# Altium integrated library Microchip PIC16 Part 1.IntLib: 1800 symbols (part 4 of 93)
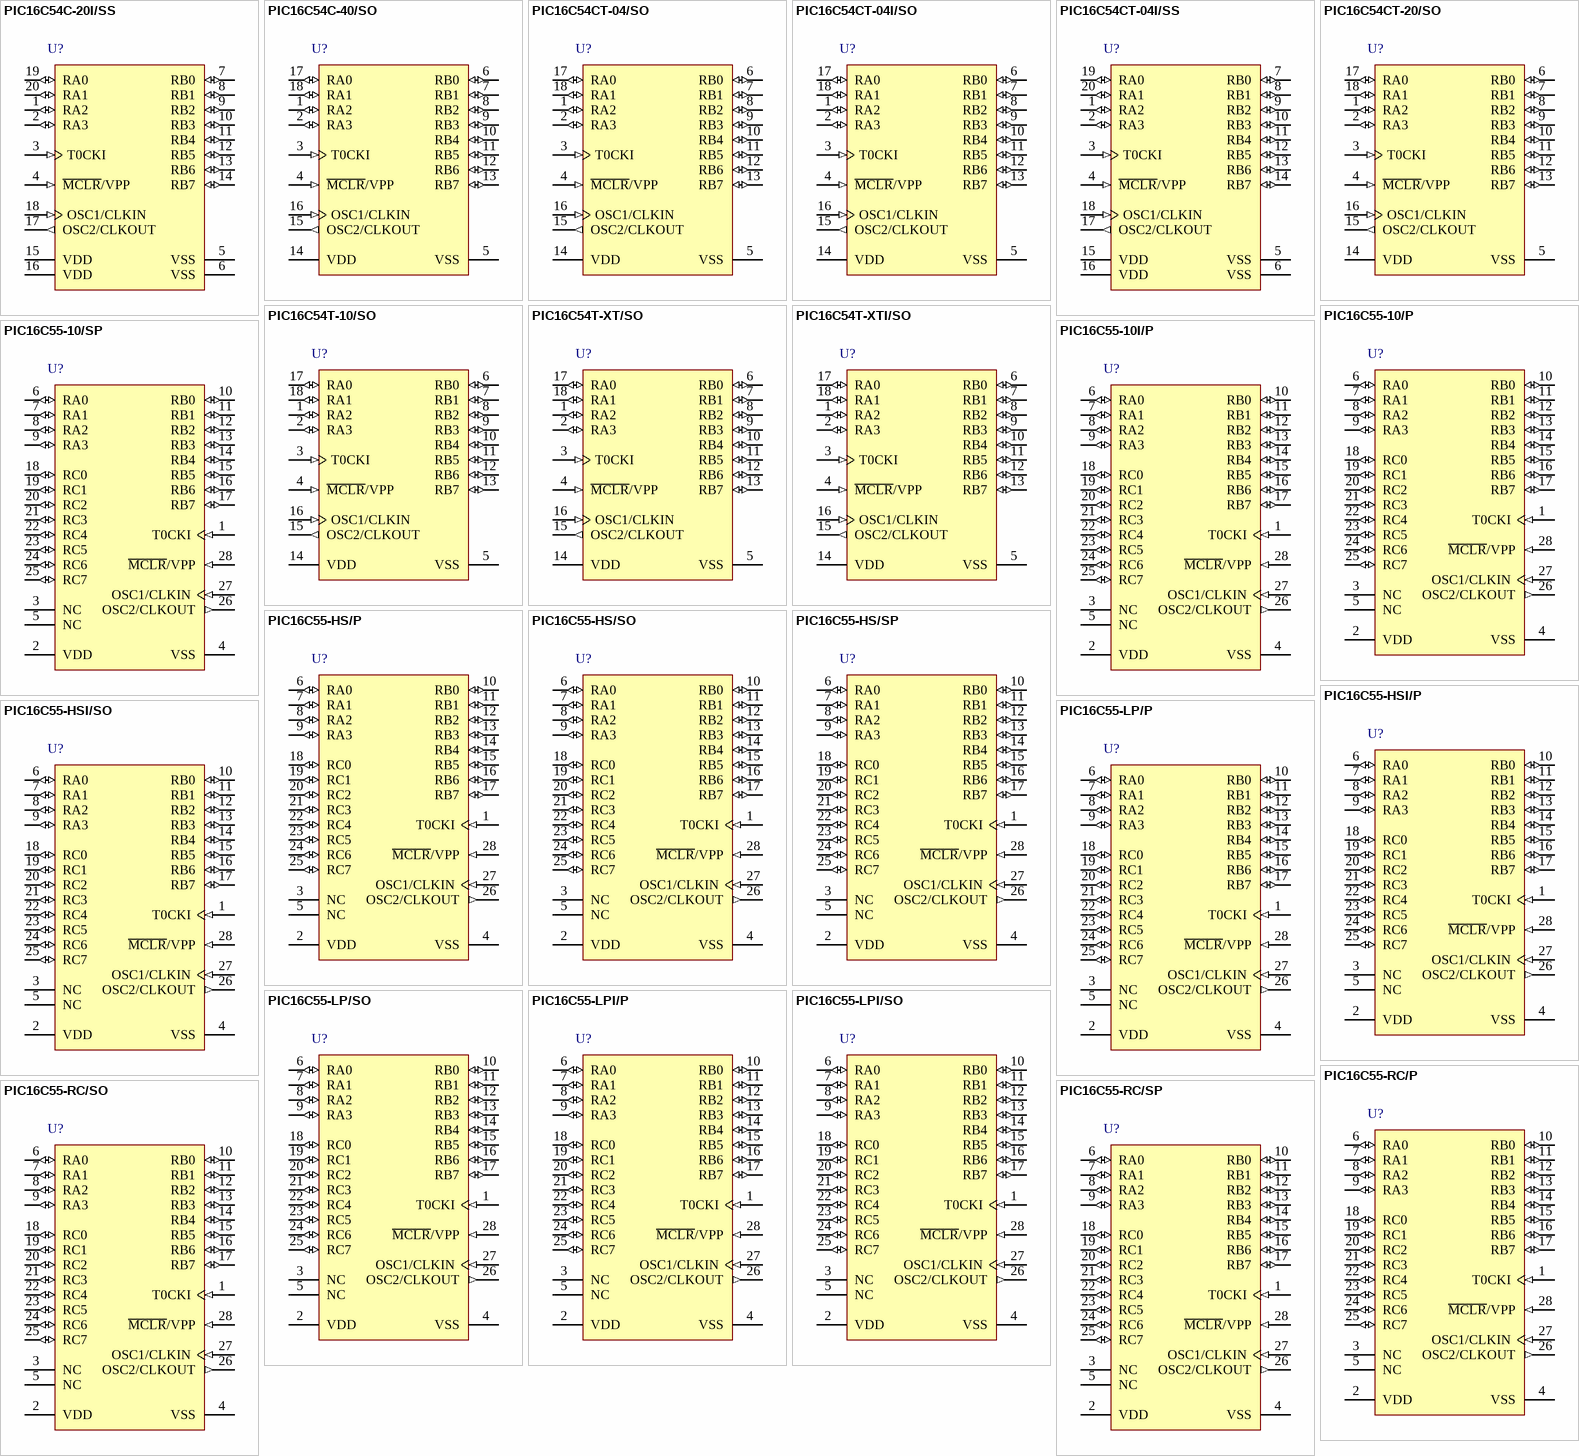
[diagram p103: symbols PIC16C54C-20I/SS to PIC16C55-RC/SP]

## PIC16C54CT-20/SO
designator U?
EPROM / ROM-Based 8-Bit CMOS Microcontroller Series, 20 MHz, 12 I/O, 0 to 70 degC, 18-pin SOIC (SO18), Tape and Reel; Manufacturer: Microchip; PartNumber: PIC16C54CT-20/SO; Digital Communication: 0 -UART, 0 -A/E/USART, 0 -SPI, 0 -I2C; I/O Pins: 12; Max. CPU Speed MHz: 20; Memory Type: OTP; Operation Voltage Range: 4.5V - 5.5V; Packing: T/R; Program Memory KBytes: 0.75; Program Memory KWords: 0.5; RAM: 25; Timers: 1 - 8-bit; DatasheetVersion: Rev. KE; PackageVersion: C04-051C, 12/2012; PackageReference: SOIC-SO18; PackageDescription: 18-Lead Plastic Small Outline, 7.5 x 11.55 mm Body, 1.27 mm Pitch; Supplier 1: Digi-Key; Supplier Part Number 1: PIC16C54CT-20/SO-ND; Supplier 2: Mouser; Supplier Part Number 2: 579-PIC16C54CT-20/SO; RoHS: TRUE; Mounting Technology: Surface Mount; ComponentLink1Description: Datasheet; ComponentLink1URL: http://ww1.microchip.com/downloads/en/DeviceDoc/30453E.pdf; ComponentLink2Description: Package Specification; ComponentLink2URL: http://www.microchip.com/stellent/groups/techpub_sg/documents/packagingspec/en012702.pdf; ComponentLink3Description: URL Link1; ComponentLink3URL: Product URL:http://www.microchip.com/datasheet/PIC16C54C
footprint MCHP-SOIC-SO18_N (SOIC, 18-Leads, Body 11.55x7.5mm, Pitch 1.27mm, IPC Medium Density)
footprint MCHP-SOIC-SO18_L (SOIC, 18-Leads, Body 11.55x7.5mm, Pitch 1.27mm, IPC High Density)
footprint MCHP-SOIC-SO18_M (SOIC, 18-Leads, Body 11.55x7.5mm, Pitch 1.27mm, IPC Low Density)
pins: 1 RA2 (io) "Bi-directional I/O port", 2 RA3 (io) "Bi-directional I/O port", 3 T0CKI (in) "Clock input to Timer0. Must be tied to VSS or VDD, if not in use, to reduce current consumption.", 4 ~{MCLR}/VPP (in), 5 VSS (power) "Ground reference for logic and I/O pins.", 6 RB0 (io) "Bi-directional I/O port", 7 RB1 (io) "Bi-directional I/O port", 8 RB2 (io) "Bi-directional I/O port", 9 RB3 (io) "Bi-directional I/O port", 10 RB4 (io) "Bi-directional I/O port", 11 RB5 (io) "Bi-directional I/O port", 12 RB6 (io) "Bi-directional I/O port", 13 RB7 (io) "Bi-directional I/O port", 14 VDD (power) "Positive supply for logic and I/O pins.", 15 OSC2/CLKOUT (out), 16 OSC1/CLKIN (in), 17 RA0 (io) "Bi-directional I/O port", 18 RA1 (io) "Bi-directional I/O port"

## PIC16C54T-10/SO
designator U?
EPROM / ROM-Based 8-Bit CMOS Microcontroller Series, 10 MHz, 12 I/O, 0 to 70 degC, 18-pin SOIC (SO18), Tape and Reel; Manufacturer: Microchip; PartNumber: PIC16C54T-10/SO; Digital Communication: 0 -UART, 0 -A/E/USART, 0 -SPI, 0 -I2C; I/O Pins: 12; Max. CPU Speed MHz: 10; Memory Type: OTP; Operation Voltage Range: 4.5V - 5.5V; Packing: T/R; Program Memory KBytes: 0.75; Program Memory KWords: 0.5; RAM: 25; Timers: 1 - 8-bit; DatasheetVersion: Rev. KE; PackageVersion: C04-051C, 12/2012; PackageReference: SOIC-SO18; PackageDescription: 18-Lead Plastic Small Outline, 7.5 x 11.55 mm Body, 1.27 mm Pitch; Supplier 1: Digi-Key; Supplier Part Number 1: PIC16C54T-10/SO-ND; Supplier 2: Mouser; Supplier Part Number 2: 579-PIC16C54T-10/SO; RoHS: TRUE; Mounting Technology: Surface Mount; ComponentLink1Description: Datasheet; ComponentLink1URL: http://ww1.microchip.com/downloads/en/DeviceDoc/30453E.pdf; ComponentLink2Description: Package Specification; ComponentLink2URL: http://www.microchip.com/stellent/groups/techpub_sg/documents/packagingspec/en012702.pdf; ComponentLink3Description: URL Link1; ComponentLink3URL: Product URL:http://www.microchip.com/datasheet/PIC16C54
footprint MCHP-SOIC-SO18_N (SOIC, 18-Leads, Body 11.55x7.5mm, Pitch 1.27mm, IPC Medium Density)
footprint MCHP-SOIC-SO18_L (SOIC, 18-Leads, Body 11.55x7.5mm, Pitch 1.27mm, IPC High Density)
footprint MCHP-SOIC-SO18_M (SOIC, 18-Leads, Body 11.55x7.5mm, Pitch 1.27mm, IPC Low Density)
pins: 1 RA2 (io) "Bi-directional I/O port", 2 RA3 (io) "Bi-directional I/O port", 3 T0CKI (in) "Clock input to Timer0. Must be tied to VSS or VDD, if not in use, to reduce current consumption.", 4 ~{MCLR}/VPP (in), 5 VSS (power) "Ground reference for logic and I/O pins.", 6 RB0 (io) "Bi-directional I/O port", 7 RB1 (io) "Bi-directional I/O port", 8 RB2 (io) "Bi-directional I/O port", 9 RB3 (io) "Bi-directional I/O port", 10 RB4 (io) "Bi-directional I/O port", 11 RB5 (io) "Bi-directional I/O port", 12 RB6 (io) "Bi-directional I/O port", 13 RB7 (io) "Bi-directional I/O port", 14 VDD (power) "Positive supply for logic and I/O pins.", 15 OSC2/CLKOUT (out), 16 OSC1/CLKIN (in), 17 RA0 (io) "Bi-directional I/O port", 18 RA1 (io) "Bi-directional I/O port"

## PIC16C54T-XT/SO
designator U?
EPROM / ROM-Based 8-Bit CMOS Microcontroller Series, 4 MHz, 12 I/O, 0 to 70 degC, 18-pin SOIC (SO18), Tape and Reel; Manufacturer: Microchip; PartNumber: PIC16C54T-XT/SO; Digital Communication: 0 -UART, 0 -A/E/USART, 0 -SPI, 0 -I2C; I/O Pins: 12; Max. CPU Speed MHz: 4; Memory Type: OTP; Operation Voltage Range: 2.5V - 6.25V; Packing: T/R; Program Memory KBytes: 0.75; Program Memory KWords: 0.5; RAM: 25; Timers: 1 - 8-bit; DatasheetVersion: Rev. KE; PackageVersion: C04-051C, 12/2012; PackageReference: SOIC-SO18; PackageDescription: 18-Lead Plastic Small Outline, 7.5 x 11.55 mm Body, 1.27 mm Pitch; Supplier 1: Digi-Key; Supplier Part Number 1: PIC16C54T-XT/SO-ND; Supplier 2: Mouser; Supplier Part Number 2: 579-PIC16C54T-XT/SO; RoHS: TRUE; Mounting Technology: Surface Mount; ComponentLink1Description: Datasheet; ComponentLink1URL: http://ww1.microchip.com/downloads/en/DeviceDoc/30453E.pdf; ComponentLink2Description: Package Specification; ComponentLink2URL: http://www.microchip.com/stellent/groups/techpub_sg/documents/packagingspec/en012702.pdf; ComponentLink3Description: URL Link1; ComponentLink3URL: Product URL:http://www.microchip.com/datasheet/PIC16C54
footprint MCHP-SOIC-SO18_N (SOIC, 18-Leads, Body 11.55x7.5mm, Pitch 1.27mm, IPC Medium Density)
footprint MCHP-SOIC-SO18_L (SOIC, 18-Leads, Body 11.55x7.5mm, Pitch 1.27mm, IPC High Density)
footprint MCHP-SOIC-SO18_M (SOIC, 18-Leads, Body 11.55x7.5mm, Pitch 1.27mm, IPC Low Density)
pins: 1 RA2 (io) "Bi-directional I/O port", 2 RA3 (io) "Bi-directional I/O port", 3 T0CKI (in) "Clock input to Timer0. Must be tied to VSS or VDD, if not in use, to reduce current consumption.", 4 ~{MCLR}/VPP (in), 5 VSS (power) "Ground reference for logic and I/O pins.", 6 RB0 (io) "Bi-directional I/O port", 7 RB1 (io) "Bi-directional I/O port", 8 RB2 (io) "Bi-directional I/O port", 9 RB3 (io) "Bi-directional I/O port", 10 RB4 (io) "Bi-directional I/O port", 11 RB5 (io) "Bi-directional I/O port", 12 RB6 (io) "Bi-directional I/O port", 13 RB7 (io) "Bi-directional I/O port", 14 VDD (power) "Positive supply for logic and I/O pins.", 15 OSC2/CLKOUT (out), 16 OSC1/CLKIN (in), 17 RA0 (io) "Bi-directional I/O port", 18 RA1 (io) "Bi-directional I/O port"

## PIC16C54T-XTI/SO
designator U?
EPROM / ROM-Based 8-Bit CMOS Microcontroller Series, 4 MHz, 12 I/O, -40 to 85 degC, 18-pin SOIC (SO18), Tape and Reel; Manufacturer: Microchip; PartNumber: PIC16C54T-XTI/SO; Digital Communication: 0 -UART, 0 -A/E/USART, 0 -SPI, 0 -I2C; I/O Pins: 12; Max. CPU Speed MHz: 4; Memory Type: OTP; Operation Voltage Range: 2.5V - 6.25V; Packing: T/R; Program Memory KBytes: 0.75; Program Memory KWords: 0.5; RAM: 25; Timers: 1 - 8-bit; DatasheetVersion: Rev. KE; PackageVersion: C04-051C, 12/2012; PackageReference: SOIC-SO18; PackageDescription: 18-Lead Plastic Small Outline, 7.5 x 11.55 mm Body, 1.27 mm Pitch; Supplier 1: Digi-Key; Supplier Part Number 1: PIC16C54T-XTI/SO-ND; Supplier 2: Mouser; Supplier Part Number 2: 579-PIC16C54T-XTI/SO; RoHS: TRUE; Mounting Technology: Surface Mount; ComponentLink1Description: Datasheet; ComponentLink1URL: http://ww1.microchip.com/downloads/en/DeviceDoc/30453E.pdf; ComponentLink2Description: Package Specification; ComponentLink2URL: http://www.microchip.com/stellent/groups/techpub_sg/documents/packagingspec/en012702.pdf; ComponentLink3Description: URL Link1; ComponentLink3URL: Product URL:http://www.microchip.com/datasheet/PIC16C54
footprint MCHP-SOIC-SO18_N (SOIC, 18-Leads, Body 11.55x7.5mm, Pitch 1.27mm, IPC Medium Density)
footprint MCHP-SOIC-SO18_L (SOIC, 18-Leads, Body 11.55x7.5mm, Pitch 1.27mm, IPC High Density)
footprint MCHP-SOIC-SO18_M (SOIC, 18-Leads, Body 11.55x7.5mm, Pitch 1.27mm, IPC Low Density)
pins: 1 RA2 (io) "Bi-directional I/O port", 2 RA3 (io) "Bi-directional I/O port", 3 T0CKI (in) "Clock input to Timer0. Must be tied to VSS or VDD, if not in use, to reduce current consumption.", 4 ~{MCLR}/VPP (in), 5 VSS (power) "Ground reference for logic and I/O pins.", 6 RB0 (io) "Bi-directional I/O port", 7 RB1 (io) "Bi-directional I/O port", 8 RB2 (io) "Bi-directional I/O port", 9 RB3 (io) "Bi-directional I/O port", 10 RB4 (io) "Bi-directional I/O port", 11 RB5 (io) "Bi-directional I/O port", 12 RB6 (io) "Bi-directional I/O port", 13 RB7 (io) "Bi-directional I/O port", 14 VDD (power) "Positive supply for logic and I/O pins.", 15 OSC2/CLKOUT (out), 16 OSC1/CLKIN (in), 17 RA0 (io) "Bi-directional I/O port", 18 RA1 (io) "Bi-directional I/O port"

## PIC16C55-10/P
designator U?
EPROM / ROM-Based 8-Bit CMOS Microcontroller Series, 10 MHz, 20 I/O, 0 to 70 degC, 28-pin PDIP (P28), Tube; Manufacturer: Microchip; PartNumber: PIC16C55-10/P; Digital Communication: 1 -UART, 0 -A/E/USART, 0 -SPI, 0 -I2C; I/O Pins: 20; Max. CPU Speed MHz: 10; Memory Type: OTP; Operation Voltage Range: 4.5V - 5.5V; Program Memory KBytes: 0.75; Program Memory KWords: 0.5; RAM: 24; Timers: 1 - 8-bit; DatasheetVersion: Rev. KE; PackageVersion: C04-081B, 04/2013; PackageReference: PDIP-P28; PackageDescription: 28-Lead Plastic Dual In-Line, Body 13.53 x 37.4 mm, Pitch 2.54 mm; Supplier 1: Digi-Key; Supplier Part Number 1: PIC16C55-10/P-ND; Supplier 2: Mouser; Supplier Part Number 2: 579-PIC16C55-10/P; Packing: TUBE; RoHS: TRUE; Mounting Technology: Through Hole; ComponentLink1Description: Datasheet; ComponentLink1URL: http://ww1.microchip.com/downloads/en/DeviceDoc/30453E.pdf; ComponentLink2Description: Package Specification; ComponentLink2URL: http://www.microchip.com/stellent/groups/techpub_sg/documents/packagingspec/en012702.pdf; ComponentLink3Description: URL Link1; ComponentLink3URL: Product URL:http://www.microchip.com/datasheet/PIC16C55
footprint MCHP-PDIP-P28 (DIP, 28-Leads, Body 37.4x13.53mm, Pitch 2.54mm)
pins: 1 T0CKI (in) "Clock input to Timer0. Must be tied to VSS or VDD, if not in use, to reduce current consumption.", 2 VDD (power) "Positive supply for logic and I/O pins.", 3 NC "Unused, do not connect.", 4 VSS (power) "Ground reference for logic and I/O pins.", 5 NC "Unused, do not connect.", 6 RA0 (io) "Bi-directional I/O port", 7 RA1 (io) "Bi-directional I/O port", 8 RA2 (io) "Bi-directional I/O port", 9 RA3 (io) "Bi-directional I/O port", 10 RB0 (io) "Bi-directional I/O port", 11 RB1 (io) "Bi-directional I/O port", 12 RB2 (io) "Bi-directional I/O port", 13 RB3 (io) "Bi-directional I/O port", 14 RB4 (io) "Bi-directional I/O port", 15 RB5 (io) "Bi-directional I/O port", 16 RB6 (io) "Bi-directional I/O port", 17 RB7 (io) "Bi-directional I/O port", 18 RC0 (io) "Bi-directional I/O port", 19 RC1 (io) "Bi-directional I/O port", 20 RC2 (io) "Bi-directional I/O port", 21 RC3 (io) "Bi-directional I/O port", 22 RC4 (io) "Bi-directional I/O port", 23 RC5 (io) "Bi-directional I/O port", 24 RC6 (io) "Bi-directional I/O port", 25 RC7 (io) "Bi-directional I/O port", 26 OSC2/CLKOUT (out), 27 OSC1/CLKIN (in), 28 ~{MCLR}/VPP (in)

## PIC16C55-10/SP
designator U?
EPROM / ROM-Based 8-Bit CMOS Microcontroller Series, 10 MHz, 20 I/O, 0 to 70 degC, 28-pin SPDIP (SP28), Tube; Manufacturer: Microchip; PartNumber: PIC16C55-10/SP; Digital Communication: 1 -UART, 0 -A/E/USART, 0 -SPI, 0 -I2C; I/O Pins: 20; Max. CPU Speed MHz: 10; Memory Type: OTP; Operation Voltage Range: 4.5V - 5.5V; Program Memory KBytes: 0.75; Program Memory KWords: 0.5; RAM: 24; Timers: 1 - 8-bit; DatasheetVersion: Rev. KE; PackageVersion: C04-070B, 12/2012; PackageReference: SPDIP-SP28; PackageDescription: 28-Lead Plastic Dual In-Line, 34.86 x 6.79 mm Body, 2.54 mm Pitch; Supplier 1: Digi-Key; Supplier Part Number 1: PIC16C55-10/SP-ND; Supplier 2: Mouser; Supplier Part Number 2: 579-PIC16C55-10/SP; Packing: TUBE; RoHS: TRUE; Mounting Technology: Through Hole; ComponentLink1Description: Datasheet; ComponentLink1URL: http://ww1.microchip.com/downloads/en/DeviceDoc/30453E.pdf; ComponentLink2Description: Package Specification; ComponentLink2URL: http://www.microchip.com/stellent/groups/techpub_sg/documents/packagingspec/en012702.pdf; ComponentLink3Description: URL Link1; ComponentLink3URL: Product URL:http://www.microchip.com/datasheet/PIC16C55
footprint MCHP-SPDIP-SP28 (DIP, 28-Leads, Body 34.86x6.79mm, Pitch 2.54mm)
pins: 1 T0CKI (in) "Clock input to Timer0. Must be tied to VSS or VDD, if not in use, to reduce current consumption.", 2 VDD (power) "Positive supply for logic and I/O pins.", 3 NC "Unused, do not connect.", 4 VSS (power) "Ground reference for logic and I/O pins.", 5 NC "Unused, do not connect.", 6 RA0 (io) "Bi-directional I/O port", 7 RA1 (io) "Bi-directional I/O port", 8 RA2 (io) "Bi-directional I/O port", 9 RA3 (io) "Bi-directional I/O port", 10 RB0 (io) "Bi-directional I/O port", 11 RB1 (io) "Bi-directional I/O port", 12 RB2 (io) "Bi-directional I/O port", 13 RB3 (io) "Bi-directional I/O port", 14 RB4 (io) "Bi-directional I/O port", 15 RB5 (io) "Bi-directional I/O port", 16 RB6 (io) "Bi-directional I/O port", 17 RB7 (io) "Bi-directional I/O port", 18 RC0 (io) "Bi-directional I/O port", 19 RC1 (io) "Bi-directional I/O port", 20 RC2 (io) "Bi-directional I/O port", 21 RC3 (io) "Bi-directional I/O port", 22 RC4 (io) "Bi-directional I/O port", 23 RC5 (io) "Bi-directional I/O port", 24 RC6 (io) "Bi-directional I/O port", 25 RC7 (io) "Bi-directional I/O port", 26 OSC2/CLKOUT (out), 27 OSC1/CLKIN (in), 28 ~{MCLR}/VPP (in)

## PIC16C55-10I/P
designator U?
EPROM / ROM-Based 8-Bit CMOS Microcontroller Series, 10 MHz, 20 I/O, -40 to 85 degC, 28-pin PDIP (P28), Tube; Manufacturer: Microchip; PartNumber: PIC16C55-10I/P; Digital Communication: 1 -UART, 0 -A/E/USART, 0 -SPI, 0 -I2C; I/O Pins: 20; Max. CPU Speed MHz: 10; Memory Type: OTP; Operation Voltage Range: 4.5V - 5.5V; Program Memory KBytes: 0.75; Program Memory KWords: 0.5; RAM: 24; Timers: 1 - 8-bit; DatasheetVersion: Rev. KE; PackageVersion: C04-081B, 04/2013; PackageReference: PDIP-P28; PackageDescription: 28-Lead Plastic Dual In-Line, Body 13.53 x 37.4 mm, Pitch 2.54 mm; Supplier 1: Digi-Key; Supplier Part Number 1: PIC16C55-10I/P-ND; Supplier 2: Mouser; Supplier Part Number 2: 579-PIC16C55-10I/P; Packing: TUBE; RoHS: TRUE; Mounting Technology: Through Hole; ComponentLink1Description: Datasheet; ComponentLink1URL: http://ww1.microchip.com/downloads/en/DeviceDoc/30453E.pdf; ComponentLink2Description: Package Specification; ComponentLink2URL: http://www.microchip.com/stellent/groups/techpub_sg/documents/packagingspec/en012702.pdf; ComponentLink3Description: URL Link1; ComponentLink3URL: Product URL:http://www.microchip.com/datasheet/PIC16C55
footprint MCHP-PDIP-P28 (DIP, 28-Leads, Body 37.4x13.53mm, Pitch 2.54mm)
pins: 1 T0CKI (in) "Clock input to Timer0. Must be tied to VSS or VDD, if not in use, to reduce current consumption.", 2 VDD (power) "Positive supply for logic and I/O pins.", 3 NC "Unused, do not connect.", 4 VSS (power) "Ground reference for logic and I/O pins.", 5 NC "Unused, do not connect.", 6 RA0 (io) "Bi-directional I/O port", 7 RA1 (io) "Bi-directional I/O port", 8 RA2 (io) "Bi-directional I/O port", 9 RA3 (io) "Bi-directional I/O port", 10 RB0 (io) "Bi-directional I/O port", 11 RB1 (io) "Bi-directional I/O port", 12 RB2 (io) "Bi-directional I/O port", 13 RB3 (io) "Bi-directional I/O port", 14 RB4 (io) "Bi-directional I/O port", 15 RB5 (io) "Bi-directional I/O port", 16 RB6 (io) "Bi-directional I/O port", 17 RB7 (io) "Bi-directional I/O port", 18 RC0 (io) "Bi-directional I/O port", 19 RC1 (io) "Bi-directional I/O port", 20 RC2 (io) "Bi-directional I/O port", 21 RC3 (io) "Bi-directional I/O port", 22 RC4 (io) "Bi-directional I/O port", 23 RC5 (io) "Bi-directional I/O port", 24 RC6 (io) "Bi-directional I/O port", 25 RC7 (io) "Bi-directional I/O port", 26 OSC2/CLKOUT (out), 27 OSC1/CLKIN (in), 28 ~{MCLR}/VPP (in)

## PIC16C55-HS/P
designator U?
EPROM / ROM-Based 8-Bit CMOS Microcontroller Series, 40 MHz, 20 I/O, 0 to 70 degC, 28-pin PDIP (P28), Tube; Manufacturer: Microchip; PartNumber: PIC16C55-HS/P; Digital Communication: 1 -UART, 0 -A/E/USART, 0 -SPI, 0 -I2C; I/O Pins: 20; Max. CPU Speed MHz: 40; Memory Type: OTP; Operation Voltage Range: 4.5V - 5.5V; Program Memory KBytes: 0.75; Program Memory KWords: 0.5; RAM: 24; Timers: 1 - 8-bit; DatasheetVersion: Rev. KE; PackageVersion: C04-081B, 04/2013; PackageReference: PDIP-P28; PackageDescription: 28-Lead Plastic Dual In-Line, Body 13.53 x 37.4 mm, Pitch 2.54 mm; Supplier 1: Digi-Key; Supplier Part Number 1: PIC16C55-HS/P-ND; Supplier 2: Farnell; Supplier Part Number 2: 9759255; Supplier 3: Newark; Supplier Part Number 3: 23C3324; Supplier 4: Mouser; Supplier Part Number 4: 579-PIC16C55-HS/P; Packing: TUBE; RoHS: TRUE; Mounting Technology: Through Hole; ComponentLink1Description: Datasheet; ComponentLink1URL: http://ww1.microchip.com/downloads/en/DeviceDoc/30453E.pdf; ComponentLink2Description: Package Specification; ComponentLink2URL: http://www.microchip.com/stellent/groups/techpub_sg/documents/packagingspec/en012702.pdf; ComponentLink3Description: URL Link1; ComponentLink3URL: Product URL:http://www.microchip.com/datasheet/PIC16C55
footprint MCHP-PDIP-P28 (DIP, 28-Leads, Body 37.4x13.53mm, Pitch 2.54mm)
pins: 1 T0CKI (in) "Clock input to Timer0. Must be tied to VSS or VDD, if not in use, to reduce current consumption.", 2 VDD (power) "Positive supply for logic and I/O pins.", 3 NC "Unused, do not connect.", 4 VSS (power) "Ground reference for logic and I/O pins.", 5 NC "Unused, do not connect.", 6 RA0 (io) "Bi-directional I/O port", 7 RA1 (io) "Bi-directional I/O port", 8 RA2 (io) "Bi-directional I/O port", 9 RA3 (io) "Bi-directional I/O port", 10 RB0 (io) "Bi-directional I/O port", 11 RB1 (io) "Bi-directional I/O port", 12 RB2 (io) "Bi-directional I/O port", 13 RB3 (io) "Bi-directional I/O port", 14 RB4 (io) "Bi-directional I/O port", 15 RB5 (io) "Bi-directional I/O port", 16 RB6 (io) "Bi-directional I/O port", 17 RB7 (io) "Bi-directional I/O port", 18 RC0 (io) "Bi-directional I/O port", 19 RC1 (io) "Bi-directional I/O port", 20 RC2 (io) "Bi-directional I/O port", 21 RC3 (io) "Bi-directional I/O port", 22 RC4 (io) "Bi-directional I/O port", 23 RC5 (io) "Bi-directional I/O port", 24 RC6 (io) "Bi-directional I/O port", 25 RC7 (io) "Bi-directional I/O port", 26 OSC2/CLKOUT (out), 27 OSC1/CLKIN (in), 28 ~{MCLR}/VPP (in)

## PIC16C55-HS/SO
designator U?
EPROM / ROM-Based 8-Bit CMOS Microcontroller Series, 40 MHz, 20 I/O, 0 to 70 degC, 28-pin SOIC (SO28), Tube; Manufacturer: Microchip; PartNumber: PIC16C55-HS/SO; Digital Communication: 1 -UART, 0 -A/E/USART, 0 -SPI, 0 -I2C; I/O Pins: 20; Max. CPU Speed MHz: 40; Memory Type: OTP; Operation Voltage Range: 4.5V - 5.5V; Program Memory KBytes: 0.75; Program Memory KWords: 0.5; RAM: 24; Timers: 1 - 8-bit; DatasheetVersion: Rev. KE; PackageVersion: C04-052C, 12/2012; PackageReference: SOIC-SO28; PackageDescription: 28-Lead Plastic Small Outline, 17.9 x 7.5 mm Body, 1.27 mm Pitch; Supplier 1: Digi-Key; Supplier Part Number 1: PIC16C55-HS/SO-ND; Supplier 2: Newark; Supplier Part Number 2: 23C3325; Supplier 3: Mouser; Supplier Part Number 3: 579-PIC16C55-HS/SO; Packing: TUBE; RoHS: TRUE; Mounting Technology: Surface Mount; ComponentLink1Description: Datasheet; ComponentLink1URL: http://ww1.microchip.com/downloads/en/DeviceDoc/30453E.pdf; ComponentLink2Description: Package Specification; ComponentLink2URL: http://www.microchip.com/stellent/groups/techpub_sg/documents/packagingspec/en012702.pdf; ComponentLink3Description: URL Link1; ComponentLink3URL: Product URL:http://www.microchip.com/datasheet/PIC16C55
footprint MCHP-SOIC-SO28_N (SOIC, 28-Leads, Body 17.9x7.5mm, Pitch 1.27mm, IPC Medium Density)
footprint MCHP-SOIC-SO28_L (SOIC, 28-Leads, Body 17.9x7.5mm, Pitch 1.27mm, IPC High Density)
footprint MCHP-SOIC-SO28_M (SOIC, 28-Leads, Body 17.9x7.5mm, Pitch 1.27mm, IPC Low Density)
pins: 1 T0CKI (in) "Clock input to Timer0. Must be tied to VSS or VDD, if not in use, to reduce current consumption.", 2 VDD (power) "Positive supply for logic and I/O pins.", 3 NC "Unused, do not connect.", 4 VSS (power) "Ground reference for logic and I/O pins.", 5 NC "Unused, do not connect.", 6 RA0 (io) "Bi-directional I/O port", 7 RA1 (io) "Bi-directional I/O port", 8 RA2 (io) "Bi-directional I/O port", 9 RA3 (io) "Bi-directional I/O port", 10 RB0 (io) "Bi-directional I/O port", 11 RB1 (io) "Bi-directional I/O port", 12 RB2 (io) "Bi-directional I/O port", 13 RB3 (io) "Bi-directional I/O port", 14 RB4 (io) "Bi-directional I/O port", 15 RB5 (io) "Bi-directional I/O port", 16 RB6 (io) "Bi-directional I/O port", 17 RB7 (io) "Bi-directional I/O port", 18 RC0 (io) "Bi-directional I/O port", 19 RC1 (io) "Bi-directional I/O port", 20 RC2 (io) "Bi-directional I/O port", 21 RC3 (io) "Bi-directional I/O port", 22 RC4 (io) "Bi-directional I/O port", 23 RC5 (io) "Bi-directional I/O port", 24 RC6 (io) "Bi-directional I/O port", 25 RC7 (io) "Bi-directional I/O port", 26 OSC2/CLKOUT (out), 27 OSC1/CLKIN (in), 28 ~{MCLR}/VPP (in)

## PIC16C55-HS/SP
designator U?
EPROM / ROM-Based 8-Bit CMOS Microcontroller Series, 40 MHz, 20 I/O, 0 to 70 degC, 28-pin SPDIP (SP28), Tube; Manufacturer: Microchip; PartNumber: PIC16C55-HS/SP; Digital Communication: 1 -UART, 0 -A/E/USART, 0 -SPI, 0 -I2C; I/O Pins: 20; Max. CPU Speed MHz: 40; Memory Type: OTP; Operation Voltage Range: 4.5V - 5.5V; Program Memory KBytes: 0.75; Program Memory KWords: 0.5; RAM: 24; Timers: 1 - 8-bit; DatasheetVersion: Rev. KE; PackageVersion: C04-070B, 12/2012; PackageReference: SPDIP-SP28; PackageDescription: 28-Lead Plastic Dual In-Line, 34.86 x 6.79 mm Body, 2.54 mm Pitch; Supplier 1: Digi-Key; Supplier Part Number 1: PIC16C55-HS/SP-ND; Supplier 2: Mouser; Supplier Part Number 2: 579-PIC16C55-HS/SP; Packing: TUBE; RoHS: TRUE; Mounting Technology: Through Hole; ComponentLink1Description: Datasheet; ComponentLink1URL: http://ww1.microchip.com/downloads/en/DeviceDoc/30453E.pdf; ComponentLink2Description: Package Specification; ComponentLink2URL: http://www.microchip.com/stellent/groups/techpub_sg/documents/packagingspec/en012702.pdf; ComponentLink3Description: URL Link1; ComponentLink3URL: Product URL:http://www.microchip.com/datasheet/PIC16C55
footprint MCHP-SPDIP-SP28 (DIP, 28-Leads, Body 34.86x6.79mm, Pitch 2.54mm)
pins: 1 T0CKI (in) "Clock input to Timer0. Must be tied to VSS or VDD, if not in use, to reduce current consumption.", 2 VDD (power) "Positive supply for logic and I/O pins.", 3 NC "Unused, do not connect.", 4 VSS (power) "Ground reference for logic and I/O pins.", 5 NC "Unused, do not connect.", 6 RA0 (io) "Bi-directional I/O port", 7 RA1 (io) "Bi-directional I/O port", 8 RA2 (io) "Bi-directional I/O port", 9 RA3 (io) "Bi-directional I/O port", 10 RB0 (io) "Bi-directional I/O port", 11 RB1 (io) "Bi-directional I/O port", 12 RB2 (io) "Bi-directional I/O port", 13 RB3 (io) "Bi-directional I/O port", 14 RB4 (io) "Bi-directional I/O port", 15 RB5 (io) "Bi-directional I/O port", 16 RB6 (io) "Bi-directional I/O port", 17 RB7 (io) "Bi-directional I/O port", 18 RC0 (io) "Bi-directional I/O port", 19 RC1 (io) "Bi-directional I/O port", 20 RC2 (io) "Bi-directional I/O port", 21 RC3 (io) "Bi-directional I/O port", 22 RC4 (io) "Bi-directional I/O port", 23 RC5 (io) "Bi-directional I/O port", 24 RC6 (io) "Bi-directional I/O port", 25 RC7 (io) "Bi-directional I/O port", 26 OSC2/CLKOUT (out), 27 OSC1/CLKIN (in), 28 ~{MCLR}/VPP (in)

## PIC16C55-HSI/P
designator U?
EPROM / ROM-Based 8-Bit CMOS Microcontroller Series, 40 MHz, 20 I/O, -40 to 85 degC, 28-pin PDIP (P28), Tube; Manufacturer: Microchip; PartNumber: PIC16C55-HSI/P; Digital Communication: 1 -UART, 0 -A/E/USART, 0 -SPI, 0 -I2C; I/O Pins: 20; Max. CPU Speed MHz: 40; Memory Type: OTP; Operation Voltage Range: 4.5V - 5.5V; Program Memory KBytes: 0.75; Program Memory KWords: 0.5; RAM: 24; Timers: 1 - 8-bit; DatasheetVersion: Rev. KE; PackageVersion: C04-081B, 04/2013; PackageReference: PDIP-P28; PackageDescription: 28-Lead Plastic Dual In-Line, Body 13.53 x 37.4 mm, Pitch 2.54 mm; Supplier 1: Digi-Key; Supplier Part Number 1: PIC16C55-HSI/P-ND; Supplier 2: Newark; Supplier Part Number 2: 23C3332; Supplier 3: Mouser; Supplier Part Number 3: 579-PIC16C55-HSI/P; Packing: TUBE; RoHS: TRUE; Mounting Technology: Through Hole; ComponentLink1Description: Datasheet; ComponentLink1URL: http://ww1.microchip.com/downloads/en/DeviceDoc/30453E.pdf; ComponentLink2Description: Package Specification; ComponentLink2URL: http://www.microchip.com/stellent/groups/techpub_sg/documents/packagingspec/en012702.pdf; ComponentLink3Description: URL Link1; ComponentLink3URL: Product URL:http://www.microchip.com/datasheet/PIC16C55
footprint MCHP-PDIP-P28 (DIP, 28-Leads, Body 37.4x13.53mm, Pitch 2.54mm)
pins: 1 T0CKI (in) "Clock input to Timer0. Must be tied to VSS or VDD, if not in use, to reduce current consumption.", 2 VDD (power) "Positive supply for logic and I/O pins.", 3 NC "Unused, do not connect.", 4 VSS (power) "Ground reference for logic and I/O pins.", 5 NC "Unused, do not connect.", 6 RA0 (io) "Bi-directional I/O port", 7 RA1 (io) "Bi-directional I/O port", 8 RA2 (io) "Bi-directional I/O port", 9 RA3 (io) "Bi-directional I/O port", 10 RB0 (io) "Bi-directional I/O port", 11 RB1 (io) "Bi-directional I/O port", 12 RB2 (io) "Bi-directional I/O port", 13 RB3 (io) "Bi-directional I/O port", 14 RB4 (io) "Bi-directional I/O port", 15 RB5 (io) "Bi-directional I/O port", 16 RB6 (io) "Bi-directional I/O port", 17 RB7 (io) "Bi-directional I/O port", 18 RC0 (io) "Bi-directional I/O port", 19 RC1 (io) "Bi-directional I/O port", 20 RC2 (io) "Bi-directional I/O port", 21 RC3 (io) "Bi-directional I/O port", 22 RC4 (io) "Bi-directional I/O port", 23 RC5 (io) "Bi-directional I/O port", 24 RC6 (io) "Bi-directional I/O port", 25 RC7 (io) "Bi-directional I/O port", 26 OSC2/CLKOUT (out), 27 OSC1/CLKIN (in), 28 ~{MCLR}/VPP (in)

## PIC16C55-HSI/SO
designator U?
EPROM / ROM-Based 8-Bit CMOS Microcontroller Series, 40 MHz, 20 I/O, -40 to 85 degC, 28-pin SOIC (SO28), Tube; Manufacturer: Microchip; PartNumber: PIC16C55-HSI/SO; Digital Communication: 1 -UART, 0 -A/E/USART, 0 -SPI, 0 -I2C; I/O Pins: 20; Max. CPU Speed MHz: 40; Memory Type: OTP; Operation Voltage Range: 4.5V - 5.5V; Program Memory KBytes: 0.75; Program Memory KWords: 0.5; RAM: 24; Timers: 1 - 8-bit; DatasheetVersion: Rev. KE; PackageVersion: C04-052C, 12/2012; PackageReference: SOIC-SO28; PackageDescription: 28-Lead Plastic Small Outline, 17.9 x 7.5 mm Body, 1.27 mm Pitch; Supplier 1: Digi-Key; Supplier Part Number 1: PIC16C55-HSI/SO-ND; Supplier 2: Mouser; Supplier Part Number 2: 579-PIC16C55-HSI/SO; Packing: TUBE; RoHS: TRUE; Mounting Technology: Surface Mount; ComponentLink1Description: Datasheet; ComponentLink1URL: http://ww1.microchip.com/downloads/en/DeviceDoc/30453E.pdf; ComponentLink2Description: Package Specification; ComponentLink2URL: http://www.microchip.com/stellent/groups/techpub_sg/documents/packagingspec/en012702.pdf; ComponentLink3Description: URL Link1; ComponentLink3URL: Product URL:http://www.microchip.com/datasheet/PIC16C55
footprint MCHP-SOIC-SO28_N (SOIC, 28-Leads, Body 17.9x7.5mm, Pitch 1.27mm, IPC Medium Density)
footprint MCHP-SOIC-SO28_L (SOIC, 28-Leads, Body 17.9x7.5mm, Pitch 1.27mm, IPC High Density)
footprint MCHP-SOIC-SO28_M (SOIC, 28-Leads, Body 17.9x7.5mm, Pitch 1.27mm, IPC Low Density)
pins: 1 T0CKI (in) "Clock input to Timer0. Must be tied to VSS or VDD, if not in use, to reduce current consumption.", 2 VDD (power) "Positive supply for logic and I/O pins.", 3 NC "Unused, do not connect.", 4 VSS (power) "Ground reference for logic and I/O pins.", 5 NC "Unused, do not connect.", 6 RA0 (io) "Bi-directional I/O port", 7 RA1 (io) "Bi-directional I/O port", 8 RA2 (io) "Bi-directional I/O port", 9 RA3 (io) "Bi-directional I/O port", 10 RB0 (io) "Bi-directional I/O port", 11 RB1 (io) "Bi-directional I/O port", 12 RB2 (io) "Bi-directional I/O port", 13 RB3 (io) "Bi-directional I/O port", 14 RB4 (io) "Bi-directional I/O port", 15 RB5 (io) "Bi-directional I/O port", 16 RB6 (io) "Bi-directional I/O port", 17 RB7 (io) "Bi-directional I/O port", 18 RC0 (io) "Bi-directional I/O port", 19 RC1 (io) "Bi-directional I/O port", 20 RC2 (io) "Bi-directional I/O port", 21 RC3 (io) "Bi-directional I/O port", 22 RC4 (io) "Bi-directional I/O port", 23 RC5 (io) "Bi-directional I/O port", 24 RC6 (io) "Bi-directional I/O port", 25 RC7 (io) "Bi-directional I/O port", 26 OSC2/CLKOUT (out), 27 OSC1/CLKIN (in), 28 ~{MCLR}/VPP (in)

## PIC16C55-LP/P
designator U?
EPROM / ROM-Based 8-Bit CMOS Microcontroller Series, 0.2 MHz, 20 I/O, 0 to 70 degC, 28-pin PDIP (P28), Tube; Manufacturer: Microchip; PartNumber: PIC16C55-LP/P; Digital Communication: 1 -UART, 0 -A/E/USART, 0 -SPI, 0 -I2C; I/O Pins: 20; Max. CPU Speed MHz: 0.2; Memory Type: OTP; Operation Voltage Range: 2.5V - 6.25V; Program Memory KBytes: 0.75; Program Memory KWords: 0.5; RAM: 24; Timers: 1 - 8-bit; DatasheetVersion: Rev. KE; PackageVersion: C04-081B, 04/2013; PackageReference: PDIP-P28; PackageDescription: 28-Lead Plastic Dual In-Line, Body 13.53 x 37.4 mm, Pitch 2.54 mm; Supplier 1: Digi-Key; Supplier Part Number 1: PIC16C55-LP/P-ND; Supplier 2: Mouser; Supplier Part Number 2: 579-PIC16C55-LP/P; Packing: TUBE; RoHS: TRUE; Mounting Technology: Through Hole; ComponentLink1Description: Datasheet; ComponentLink1URL: http://ww1.microchip.com/downloads/en/DeviceDoc/30453E.pdf; ComponentLink2Description: Package Specification; ComponentLink2URL: http://www.microchip.com/stellent/groups/techpub_sg/documents/packagingspec/en012702.pdf; ComponentLink3Description: URL Link1; ComponentLink3URL: Product URL:http://www.microchip.com/datasheet/PIC16C55
footprint MCHP-PDIP-P28 (DIP, 28-Leads, Body 37.4x13.53mm, Pitch 2.54mm)
pins: 1 T0CKI (in) "Clock input to Timer0. Must be tied to VSS or VDD, if not in use, to reduce current consumption.", 2 VDD (power) "Positive supply for logic and I/O pins.", 3 NC "Unused, do not connect.", 4 VSS (power) "Ground reference for logic and I/O pins.", 5 NC "Unused, do not connect.", 6 RA0 (io) "Bi-directional I/O port", 7 RA1 (io) "Bi-directional I/O port", 8 RA2 (io) "Bi-directional I/O port", 9 RA3 (io) "Bi-directional I/O port", 10 RB0 (io) "Bi-directional I/O port", 11 RB1 (io) "Bi-directional I/O port", 12 RB2 (io) "Bi-directional I/O port", 13 RB3 (io) "Bi-directional I/O port", 14 RB4 (io) "Bi-directional I/O port", 15 RB5 (io) "Bi-directional I/O port", 16 RB6 (io) "Bi-directional I/O port", 17 RB7 (io) "Bi-directional I/O port", 18 RC0 (io) "Bi-directional I/O port", 19 RC1 (io) "Bi-directional I/O port", 20 RC2 (io) "Bi-directional I/O port", 21 RC3 (io) "Bi-directional I/O port", 22 RC4 (io) "Bi-directional I/O port", 23 RC5 (io) "Bi-directional I/O port", 24 RC6 (io) "Bi-directional I/O port", 25 RC7 (io) "Bi-directional I/O port", 26 OSC2/CLKOUT (out), 27 OSC1/CLKIN (in), 28 ~{MCLR}/VPP (in)

## PIC16C55-LP/SO
designator U?
EPROM / ROM-Based 8-Bit CMOS Microcontroller Series, 0.2 MHz, 20 I/O, 0 to 70 degC, 28-pin SOIC (SO28), Tube; Manufacturer: Microchip; PartNumber: PIC16C55-LP/SO; Digital Communication: 1 -UART, 0 -A/E/USART, 0 -SPI, 0 -I2C; I/O Pins: 20; Max. CPU Speed MHz: 0.2; Memory Type: OTP; Operation Voltage Range: 2.5V - 6.25V; Program Memory KBytes: 0.75; Program Memory KWords: 0.5; RAM: 24; Timers: 1 - 8-bit; DatasheetVersion: Rev. KE; PackageVersion: C04-052C, 12/2012; PackageReference: SOIC-SO28; PackageDescription: 28-Lead Plastic Small Outline, 17.9 x 7.5 mm Body, 1.27 mm Pitch; Supplier 1: Digi-Key; Supplier Part Number 1: PIC16C55-LP/SO-ND; Supplier 2: Mouser; Supplier Part Number 2: 579-PIC16C55-LP/SO; Packing: TUBE; RoHS: TRUE; Mounting Technology: Surface Mount; ComponentLink1Description: Datasheet; ComponentLink1URL: http://ww1.microchip.com/downloads/en/DeviceDoc/30453E.pdf; ComponentLink2Description: Package Specification; ComponentLink2URL: http://www.microchip.com/stellent/groups/techpub_sg/documents/packagingspec/en012702.pdf; ComponentLink3Description: URL Link1; ComponentLink3URL: Product URL:http://www.microchip.com/datasheet/PIC16C55
footprint MCHP-SOIC-SO28_N (SOIC, 28-Leads, Body 17.9x7.5mm, Pitch 1.27mm, IPC Medium Density)
footprint MCHP-SOIC-SO28_L (SOIC, 28-Leads, Body 17.9x7.5mm, Pitch 1.27mm, IPC High Density)
footprint MCHP-SOIC-SO28_M (SOIC, 28-Leads, Body 17.9x7.5mm, Pitch 1.27mm, IPC Low Density)
pins: 1 T0CKI (in) "Clock input to Timer0. Must be tied to VSS or VDD, if not in use, to reduce current consumption.", 2 VDD (power) "Positive supply for logic and I/O pins.", 3 NC "Unused, do not connect.", 4 VSS (power) "Ground reference for logic and I/O pins.", 5 NC "Unused, do not connect.", 6 RA0 (io) "Bi-directional I/O port", 7 RA1 (io) "Bi-directional I/O port", 8 RA2 (io) "Bi-directional I/O port", 9 RA3 (io) "Bi-directional I/O port", 10 RB0 (io) "Bi-directional I/O port", 11 RB1 (io) "Bi-directional I/O port", 12 RB2 (io) "Bi-directional I/O port", 13 RB3 (io) "Bi-directional I/O port", 14 RB4 (io) "Bi-directional I/O port", 15 RB5 (io) "Bi-directional I/O port", 16 RB6 (io) "Bi-directional I/O port", 17 RB7 (io) "Bi-directional I/O port", 18 RC0 (io) "Bi-directional I/O port", 19 RC1 (io) "Bi-directional I/O port", 20 RC2 (io) "Bi-directional I/O port", 21 RC3 (io) "Bi-directional I/O port", 22 RC4 (io) "Bi-directional I/O port", 23 RC5 (io) "Bi-directional I/O port", 24 RC6 (io) "Bi-directional I/O port", 25 RC7 (io) "Bi-directional I/O port", 26 OSC2/CLKOUT (out), 27 OSC1/CLKIN (in), 28 ~{MCLR}/VPP (in)

## PIC16C55-LPI/P
designator U?
EPROM / ROM-Based 8-Bit CMOS Microcontroller Series, 0.2 MHz, 20 I/O, -40 to 85 degC, 28-pin PDIP (P28), Tube; Manufacturer: Microchip; PartNumber: PIC16C55-LPI/P; Digital Communication: 1 -UART, 0 -A/E/USART, 0 -SPI, 0 -I2C; I/O Pins: 20; Max. CPU Speed MHz: 0.2; Memory Type: OTP; Operation Voltage Range: 2.5V - 6.25V; Program Memory KBytes: 0.75; Program Memory KWords: 0.5; RAM: 24; Timers: 1 - 8-bit; DatasheetVersion: Rev. KE; PackageVersion: C04-081B, 04/2013; PackageReference: PDIP-P28; PackageDescription: 28-Lead Plastic Dual In-Line, Body 13.53 x 37.4 mm, Pitch 2.54 mm; Supplier 1: Digi-Key; Supplier Part Number 1: PIC16C55-LPI/P-ND; Supplier 2: Mouser; Supplier Part Number 2: 579-PIC16C55-LPI/P; Packing: TUBE; RoHS: TRUE; Mounting Technology: Through Hole; ComponentLink1Description: Datasheet; ComponentLink1URL: http://ww1.microchip.com/downloads/en/DeviceDoc/30453E.pdf; ComponentLink2Description: Package Specification; ComponentLink2URL: http://www.microchip.com/stellent/groups/techpub_sg/documents/packagingspec/en012702.pdf; ComponentLink3Description: URL Link1; ComponentLink3URL: Product URL:http://www.microchip.com/datasheet/PIC16C55
footprint MCHP-PDIP-P28 (DIP, 28-Leads, Body 37.4x13.53mm, Pitch 2.54mm)
pins: 1 T0CKI (in) "Clock input to Timer0. Must be tied to VSS or VDD, if not in use, to reduce current consumption.", 2 VDD (power) "Positive supply for logic and I/O pins.", 3 NC "Unused, do not connect.", 4 VSS (power) "Ground reference for logic and I/O pins.", 5 NC "Unused, do not connect.", 6 RA0 (io) "Bi-directional I/O port", 7 RA1 (io) "Bi-directional I/O port", 8 RA2 (io) "Bi-directional I/O port", 9 RA3 (io) "Bi-directional I/O port", 10 RB0 (io) "Bi-directional I/O port", 11 RB1 (io) "Bi-directional I/O port", 12 RB2 (io) "Bi-directional I/O port", 13 RB3 (io) "Bi-directional I/O port", 14 RB4 (io) "Bi-directional I/O port", 15 RB5 (io) "Bi-directional I/O port", 16 RB6 (io) "Bi-directional I/O port", 17 RB7 (io) "Bi-directional I/O port", 18 RC0 (io) "Bi-directional I/O port", 19 RC1 (io) "Bi-directional I/O port", 20 RC2 (io) "Bi-directional I/O port", 21 RC3 (io) "Bi-directional I/O port", 22 RC4 (io) "Bi-directional I/O port", 23 RC5 (io) "Bi-directional I/O port", 24 RC6 (io) "Bi-directional I/O port", 25 RC7 (io) "Bi-directional I/O port", 26 OSC2/CLKOUT (out), 27 OSC1/CLKIN (in), 28 ~{MCLR}/VPP (in)

## PIC16C55-LPI/SO
designator U?
EPROM / ROM-Based 8-Bit CMOS Microcontroller Series, 0.2 MHz, 20 I/O, -40 to 85 degC, 28-pin SOIC (SO28), Tube; Manufacturer: Microchip; PartNumber: PIC16C55-LPI/SO; Digital Communication: 1 -UART, 0 -A/E/USART, 0 -SPI, 0 -I2C; I/O Pins: 20; Max. CPU Speed MHz: 0.2; Memory Type: OTP; Operation Voltage Range: 2.5V - 6.25V; Program Memory KBytes: 0.75; Program Memory KWords: 0.5; RAM: 24; Timers: 1 - 8-bit; DatasheetVersion: Rev. KE; PackageVersion: C04-052C, 12/2012; PackageReference: SOIC-SO28; PackageDescription: 28-Lead Plastic Small Outline, 17.9 x 7.5 mm Body, 1.27 mm Pitch; Supplier 1: Digi-Key; Supplier Part Number 1: PIC16C55-LPI/SO-ND; Supplier 2: Mouser; Supplier Part Number 2: 579-PIC16C55-LPI/SO; Packing: TUBE; RoHS: TRUE; Mounting Technology: Surface Mount; ComponentLink1Description: Datasheet; ComponentLink1URL: http://ww1.microchip.com/downloads/en/DeviceDoc/30453E.pdf; ComponentLink2Description: Package Specification; ComponentLink2URL: http://www.microchip.com/stellent/groups/techpub_sg/documents/packagingspec/en012702.pdf; ComponentLink3Description: URL Link1; ComponentLink3URL: Product URL:http://www.microchip.com/datasheet/PIC16C55
footprint MCHP-SOIC-SO28_N (SOIC, 28-Leads, Body 17.9x7.5mm, Pitch 1.27mm, IPC Medium Density)
footprint MCHP-SOIC-SO28_L (SOIC, 28-Leads, Body 17.9x7.5mm, Pitch 1.27mm, IPC High Density)
footprint MCHP-SOIC-SO28_M (SOIC, 28-Leads, Body 17.9x7.5mm, Pitch 1.27mm, IPC Low Density)
pins: 1 T0CKI (in) "Clock input to Timer0. Must be tied to VSS or VDD, if not in use, to reduce current consumption.", 2 VDD (power) "Positive supply for logic and I/O pins.", 3 NC "Unused, do not connect.", 4 VSS (power) "Ground reference for logic and I/O pins.", 5 NC "Unused, do not connect.", 6 RA0 (io) "Bi-directional I/O port", 7 RA1 (io) "Bi-directional I/O port", 8 RA2 (io) "Bi-directional I/O port", 9 RA3 (io) "Bi-directional I/O port", 10 RB0 (io) "Bi-directional I/O port", 11 RB1 (io) "Bi-directional I/O port", 12 RB2 (io) "Bi-directional I/O port", 13 RB3 (io) "Bi-directional I/O port", 14 RB4 (io) "Bi-directional I/O port", 15 RB5 (io) "Bi-directional I/O port", 16 RB6 (io) "Bi-directional I/O port", 17 RB7 (io) "Bi-directional I/O port", 18 RC0 (io) "Bi-directional I/O port", 19 RC1 (io) "Bi-directional I/O port", 20 RC2 (io) "Bi-directional I/O port", 21 RC3 (io) "Bi-directional I/O port", 22 RC4 (io) "Bi-directional I/O port", 23 RC5 (io) "Bi-directional I/O port", 24 RC6 (io) "Bi-directional I/O port", 25 RC7 (io) "Bi-directional I/O port", 26 OSC2/CLKOUT (out), 27 OSC1/CLKIN (in), 28 ~{MCLR}/VPP (in)

## PIC16C55-RC/P
designator U?
EPROM / ROM-Based 8-Bit CMOS Microcontroller Series, 4 MHz, 20 I/O, 0 to 70 degC, 28-pin PDIP (P28), Tube; Manufacturer: Microchip; PartNumber: PIC16C55-RC/P; Digital Communication: 1 -UART, 0 -A/E/USART, 0 -SPI, 0 -I2C; I/O Pins: 20; Max. CPU Speed MHz: 4; Memory Type: OTP; Operation Voltage Range: 3V - 6.25V; Program Memory KBytes: 0.75; Program Memory KWords: 0.5; RAM: 24; Timers: 1 - 8-bit; DatasheetVersion: Rev. KE; PackageVersion: C04-081B, 04/2013; PackageReference: PDIP-P28; PackageDescription: 28-Lead Plastic Dual In-Line, Body 13.53 x 37.4 mm, Pitch 2.54 mm; Supplier 1: Digi-Key; Supplier Part Number 1: PIC16C55-RC/P-ND; Supplier 2: Farnell; Supplier Part Number 2: 1196780; Supplier 3: Newark; Supplier Part Number 3: 96K3790; Supplier 4: Mouser; Supplier Part Number 4: 579-PIC16C55RCP; Packing: TUBE; RoHS: TRUE; Mounting Technology: Through Hole; ComponentLink1Description: Datasheet; ComponentLink1URL: http://ww1.microchip.com/downloads/en/DeviceDoc/30453E.pdf; ComponentLink2Description: Package Specification; ComponentLink2URL: http://www.microchip.com/stellent/groups/techpub_sg/documents/packagingspec/en012702.pdf; ComponentLink3Description: URL Link1; ComponentLink3URL: Product URL:http://www.microchip.com/datasheet/PIC16C55
footprint MCHP-PDIP-P28 (DIP, 28-Leads, Body 37.4x13.53mm, Pitch 2.54mm)
pins: 1 T0CKI (in) "Clock input to Timer0. Must be tied to VSS or VDD, if not in use, to reduce current consumption.", 2 VDD (power) "Positive supply for logic and I/O pins.", 3 NC "Unused, do not connect.", 4 VSS (power) "Ground reference for logic and I/O pins.", 5 NC "Unused, do not connect.", 6 RA0 (io) "Bi-directional I/O port", 7 RA1 (io) "Bi-directional I/O port", 8 RA2 (io) "Bi-directional I/O port", 9 RA3 (io) "Bi-directional I/O port", 10 RB0 (io) "Bi-directional I/O port", 11 RB1 (io) "Bi-directional I/O port", 12 RB2 (io) "Bi-directional I/O port", 13 RB3 (io) "Bi-directional I/O port", 14 RB4 (io) "Bi-directional I/O port", 15 RB5 (io) "Bi-directional I/O port", 16 RB6 (io) "Bi-directional I/O port", 17 RB7 (io) "Bi-directional I/O port", 18 RC0 (io) "Bi-directional I/O port", 19 RC1 (io) "Bi-directional I/O port", 20 RC2 (io) "Bi-directional I/O port", 21 RC3 (io) "Bi-directional I/O port", 22 RC4 (io) "Bi-directional I/O port", 23 RC5 (io) "Bi-directional I/O port", 24 RC6 (io) "Bi-directional I/O port", 25 RC7 (io) "Bi-directional I/O port", 26 OSC2/CLKOUT (out), 27 OSC1/CLKIN (in), 28 ~{MCLR}/VPP (in)

## PIC16C55-RC/SO
designator U?
EPROM / ROM-Based 8-Bit CMOS Microcontroller Series, 4 MHz, 20 I/O, 0 to 70 degC, 28-pin SOIC (SO28), Tube; Manufacturer: Microchip; PartNumber: PIC16C55-RC/SO; Digital Communication: 1 -UART, 0 -A/E/USART, 0 -SPI, 0 -I2C; I/O Pins: 20; Max. CPU Speed MHz: 4; Memory Type: OTP; Operation Voltage Range: 3V - 6.25V; Program Memory KBytes: 0.75; Program Memory KWords: 0.5; RAM: 24; Timers: 1 - 8-bit; DatasheetVersion: Rev. KE; PackageVersion: C04-052C, 12/2012; PackageReference: SOIC-SO28; PackageDescription: 28-Lead Plastic Small Outline, 17.9 x 7.5 mm Body, 1.27 mm Pitch; Supplier 1: Digi-Key; Supplier Part Number 1: PIC16C55-RC/SO-ND; Supplier 2: Mouser; Supplier Part Number 2: 579-PIC16C55RCSO; Packing: TUBE; RoHS: TRUE; Mounting Technology: Surface Mount; ComponentLink1Description: Datasheet; ComponentLink1URL: http://ww1.microchip.com/downloads/en/DeviceDoc/30453E.pdf; ComponentLink2Description: Package Specification; ComponentLink2URL: http://www.microchip.com/stellent/groups/techpub_sg/documents/packagingspec/en012702.pdf; ComponentLink3Description: URL Link1; ComponentLink3URL: Product URL:http://www.microchip.com/datasheet/PIC16C55
footprint MCHP-SOIC-SO28_N (SOIC, 28-Leads, Body 17.9x7.5mm, Pitch 1.27mm, IPC Medium Density)
footprint MCHP-SOIC-SO28_L (SOIC, 28-Leads, Body 17.9x7.5mm, Pitch 1.27mm, IPC High Density)
footprint MCHP-SOIC-SO28_M (SOIC, 28-Leads, Body 17.9x7.5mm, Pitch 1.27mm, IPC Low Density)
pins: 1 T0CKI (in) "Clock input to Timer0. Must be tied to VSS or VDD, if not in use, to reduce current consumption.", 2 VDD (power) "Positive supply for logic and I/O pins.", 3 NC "Unused, do not connect.", 4 VSS (power) "Ground reference for logic and I/O pins.", 5 NC "Unused, do not connect.", 6 RA0 (io) "Bi-directional I/O port", 7 RA1 (io) "Bi-directional I/O port", 8 RA2 (io) "Bi-directional I/O port", 9 RA3 (io) "Bi-directional I/O port", 10 RB0 (io) "Bi-directional I/O port", 11 RB1 (io) "Bi-directional I/O port", 12 RB2 (io) "Bi-directional I/O port", 13 RB3 (io) "Bi-directional I/O port", 14 RB4 (io) "Bi-directional I/O port", 15 RB5 (io) "Bi-directional I/O port", 16 RB6 (io) "Bi-directional I/O port", 17 RB7 (io) "Bi-directional I/O port", 18 RC0 (io) "Bi-directional I/O port", 19 RC1 (io) "Bi-directional I/O port", 20 RC2 (io) "Bi-directional I/O port", 21 RC3 (io) "Bi-directional I/O port", 22 RC4 (io) "Bi-directional I/O port", 23 RC5 (io) "Bi-directional I/O port", 24 RC6 (io) "Bi-directional I/O port", 25 RC7 (io) "Bi-directional I/O port", 26 OSC2/CLKOUT (out), 27 OSC1/CLKIN (in), 28 ~{MCLR}/VPP (in)

## PIC16C55-RC/SP
designator U?
EPROM / ROM-Based 8-Bit CMOS Microcontroller Series, 4 MHz, 20 I/O, 0 to 70 degC, 28-pin SPDIP (SP28), Tube; Manufacturer: Microchip; PartNumber: PIC16C55-RC/SP; Digital Communication: 1 -UART, 0 -A/E/USART, 0 -SPI, 0 -I2C; I/O Pins: 20; Max. CPU Speed MHz: 4; Memory Type: OTP; Operation Voltage Range: 3V - 6.25V; Program Memory KBytes: 0.75; Program Memory KWords: 0.5; RAM: 24; Timers: 1 - 8-bit; DatasheetVersion: Rev. KE; PackageVersion: C04-070B, 12/2012; PackageReference: SPDIP-SP28; PackageDescription: 28-Lead Plastic Dual In-Line, 34.86 x 6.79 mm Body, 2.54 mm Pitch; Supplier 1: Digi-Key; Supplier Part Number 1: PIC16C55-RC/SP-ND; Supplier 2: Mouser; Supplier Part Number 2: 579-PIC16C55-RC/SP; Packing: TUBE; RoHS: TRUE; Mounting Technology: Through Hole; ComponentLink1Description: Datasheet; ComponentLink1URL: http://ww1.microchip.com/downloads/en/DeviceDoc/30453E.pdf; ComponentLink2Description: Package Specification; ComponentLink2URL: http://www.microchip.com/stellent/groups/techpub_sg/documents/packagingspec/en012702.pdf; ComponentLink3Description: URL Link1; ComponentLink3URL: Product URL:http://www.microchip.com/datasheet/PIC16C55
footprint MCHP-SPDIP-SP28 (DIP, 28-Leads, Body 34.86x6.79mm, Pitch 2.54mm)
pins: 1 T0CKI (in) "Clock input to Timer0. Must be tied to VSS or VDD, if not in use, to reduce current consumption.", 2 VDD (power) "Positive supply for logic and I/O pins.", 3 NC "Unused, do not connect.", 4 VSS (power) "Ground reference for logic and I/O pins.", 5 NC "Unused, do not connect.", 6 RA0 (io) "Bi-directional I/O port", 7 RA1 (io) "Bi-directional I/O port", 8 RA2 (io) "Bi-directional I/O port", 9 RA3 (io) "Bi-directional I/O port", 10 RB0 (io) "Bi-directional I/O port", 11 RB1 (io) "Bi-directional I/O port", 12 RB2 (io) "Bi-directional I/O port", 13 RB3 (io) "Bi-directional I/O port", 14 RB4 (io) "Bi-directional I/O port", 15 RB5 (io) "Bi-directional I/O port", 16 RB6 (io) "Bi-directional I/O port", 17 RB7 (io) "Bi-directional I/O port", 18 RC0 (io) "Bi-directional I/O port", 19 RC1 (io) "Bi-directional I/O port", 20 RC2 (io) "Bi-directional I/O port", 21 RC3 (io) "Bi-directional I/O port", 22 RC4 (io) "Bi-directional I/O port", 23 RC5 (io) "Bi-directional I/O port", 24 RC6 (io) "Bi-directional I/O port", 25 RC7 (io) "Bi-directional I/O port", 26 OSC2/CLKOUT (out), 27 OSC1/CLKIN (in), 28 ~{MCLR}/VPP (in)

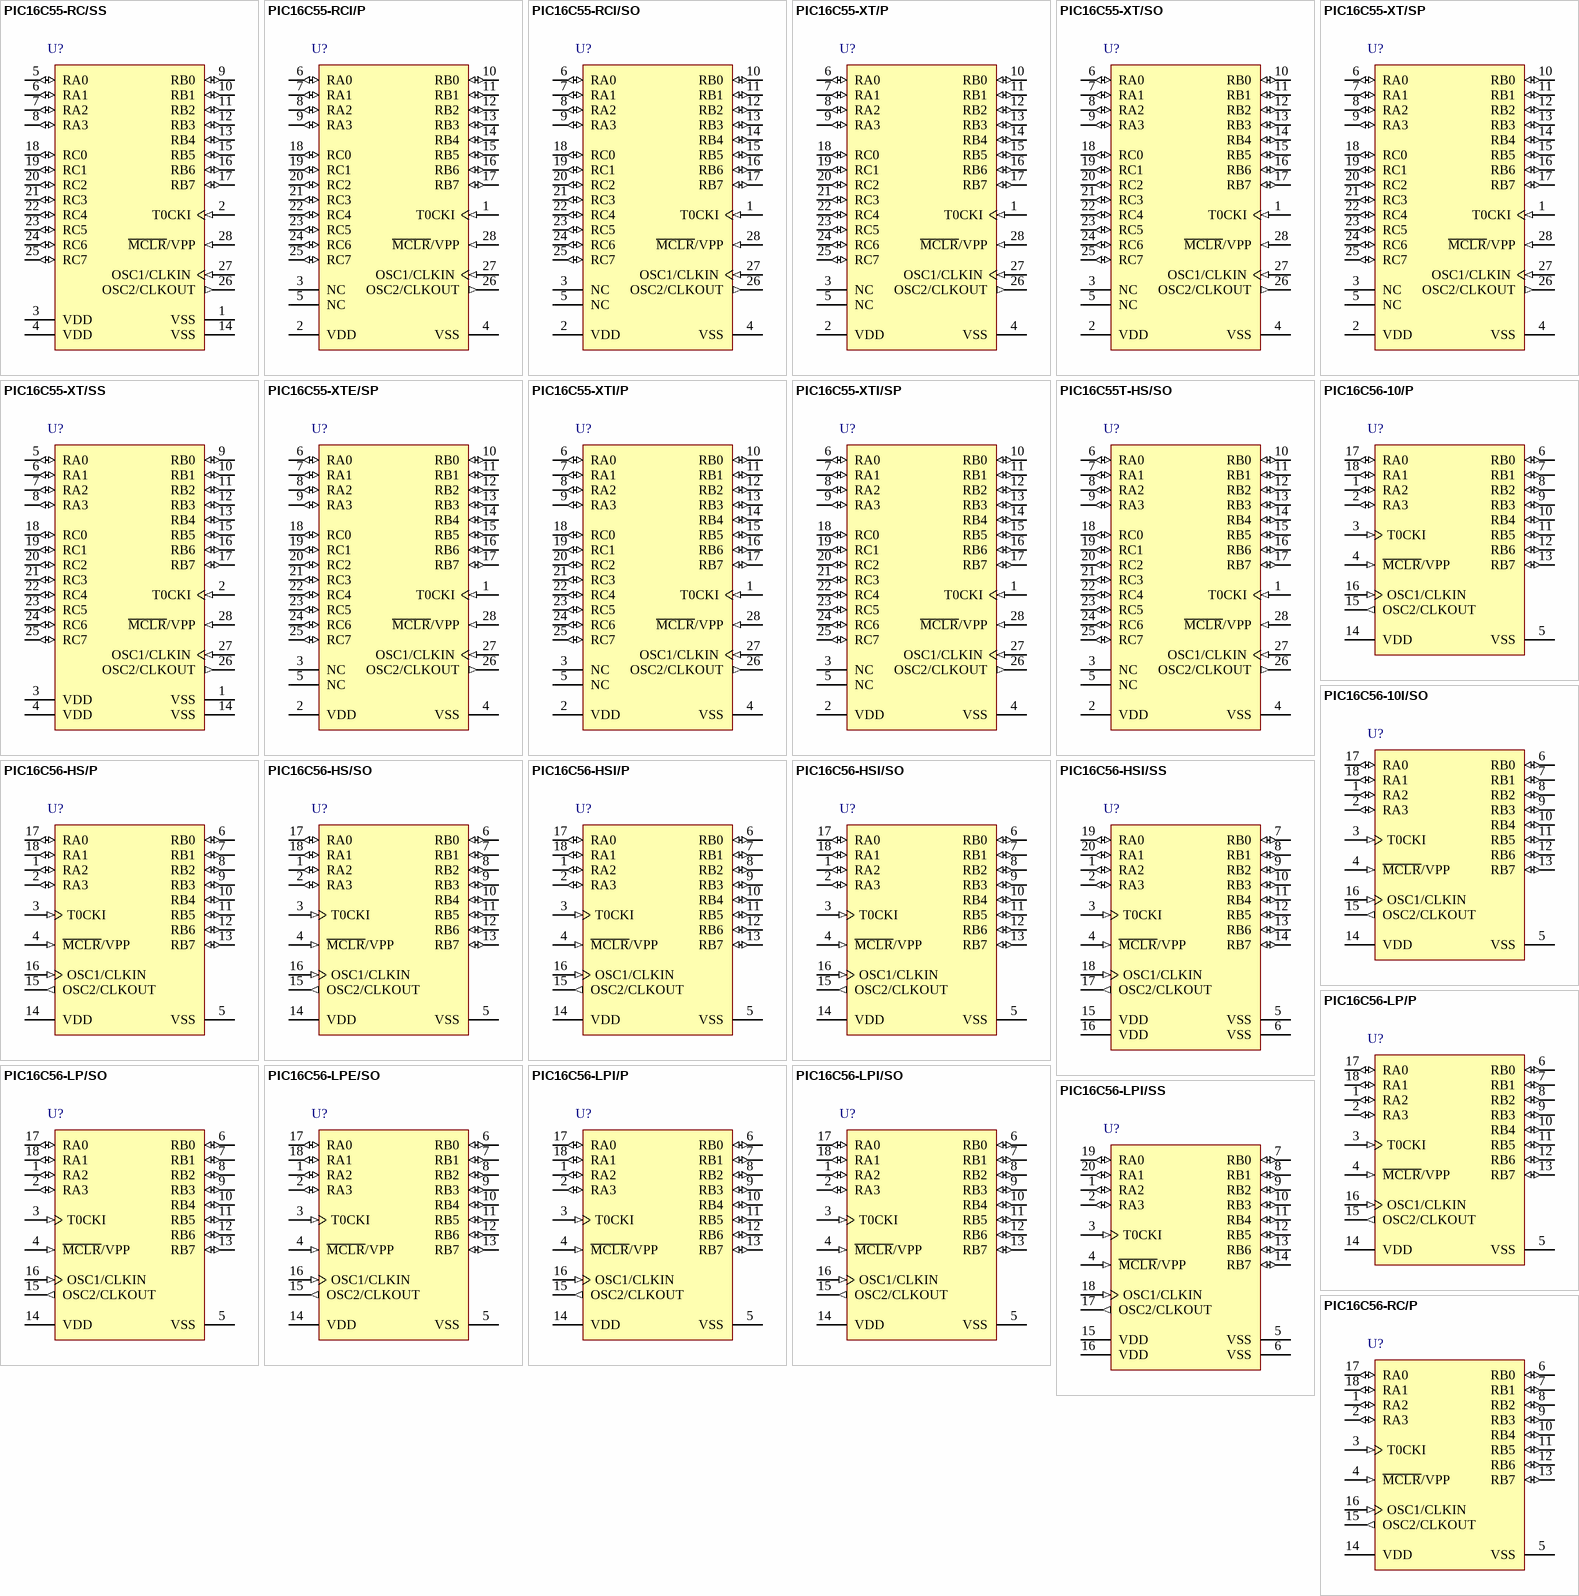
[diagram p3: symbols PIC16C55-RC/SS to PIC16C56-RC/P]

## PIC16C55-RC/SS
designator U?
EPROM / ROM-Based 8-Bit CMOS Microcontroller Series, 4 MHz, 20 I/O, 0 to 70 degC, 28-pin SSOP (SS28), Tube; Manufacturer: Microchip; PartNumber: PIC16C55-RC/SS; Digital Communication: 1 -UART, 0 -A/E/USART, 0 -SPI, 0 -I2C; I/O Pins: 20; Max. CPU Speed MHz: 4; Memory Type: OTP; Operation Voltage Range: 3V - 6.25V; Program Memory KBytes: 0.75; Program Memory KWords: 0.5; RAM: 24; Timers: 1 - 8-bit; DatasheetVersion: Rev. KE; PackageVersion: C04-073B, 12/2012; PackageReference: SSOP-SS28; PackageDescription: 28-Lead Plastic Shrink Small Outline, 10.2 x 5.3 mm Body, 0.65 mm Pitch; Supplier 1: Digi-Key; Supplier Part Number 1: PIC16C55-RC/SS-ND; Supplier 2: Mouser; Supplier Part Number 2: 579-PIC16C55-RC/SS; Packing: TUBE; RoHS: TRUE; Mounting Technology: Surface Mount; ComponentLink1Description: Datasheet; ComponentLink1URL: http://ww1.microchip.com/downloads/en/DeviceDoc/30453E.pdf; ComponentLink2Description: Package Specification; ComponentLink2URL: http://www.microchip.com/stellent/groups/techpub_sg/documents/packagingspec/en012702.pdf; ComponentLink3Description: URL Link1; ComponentLink3URL: Product URL:http://www.microchip.com/datasheet/PIC16C55
footprint MCHP-SSOP-SS28_N (SOP, 28-Leads, Body 10.2x5.3mm, Pitch 0.65mm, IPC Medium Density)
footprint MCHP-SSOP-SS28_L (SOP, 28-Leads, Body 10.2x5.3mm, Pitch 0.65mm, IPC High Density)
footprint MCHP-SSOP-SS28_M (SOP, 28-Leads, Body 10.2x5.3mm, Pitch 0.65mm, IPC Low Density)
pins: 1 VSS (power) "Ground reference for logic and I/O pins.", 2 T0CKI (in) "Clock input to Timer0. Must be tied to VSS or VDD, if not in use, to reduce current consumption.", 3 VDD (power) "Positive supply for logic and I/O pins.", 4 VDD (power) "Positive supply for logic and I/O pins.", 5 RA0 (io) "Bi-directional I/O port", 6 RA1 (io) "Bi-directional I/O port", 7 RA2 (io) "Bi-directional I/O port", 8 RA3 (io) "Bi-directional I/O port", 9 RB0 (io) "Bi-directional I/O port", 10 RB1 (io) "Bi-directional I/O port", 11 RB2 (io) "Bi-directional I/O port", 12 RB3 (io) "Bi-directional I/O port", 13 RB4 (io) "Bi-directional I/O port", 14 VSS (power) "Ground reference for logic and I/O pins.", 15 RB5 (io) "Bi-directional I/O port", 16 RB6 (io) "Bi-directional I/O port", 17 RB7 (io) "Bi-directional I/O port", 18 RC0 (io) "Bi-directional I/O port", 19 RC1 (io) "Bi-directional I/O port", 20 RC2 (io) "Bi-directional I/O port", 21 RC3 (io) "Bi-directional I/O port", 22 RC4 (io) "Bi-directional I/O port", 23 RC5 (io) "Bi-directional I/O port", 24 RC6 (io) "Bi-directional I/O port", 25 RC7 (io) "Bi-directional I/O port", 26 OSC2/CLKOUT (out), 27 OSC1/CLKIN (in), 28 ~{MCLR}/VPP (in)